# Altium schematic symbol library zener.SchLib: 1 symbol
Pins are listed as number, name and electrical type; pins without a type are passive.

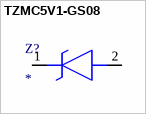
[diagram p0: symbol TZMC5V1-GS08]

## TZMC5V1-GS08
designator Z?
Zener Diode; Manufacturer_Name: Vishay; Manufacturer_Part_Number: TZMC5V1-GS08; Datasheet Link: https://componentsearchengine.com/Datasheets/2/TZMC5V1-GS08.pdf; Height: 1.6mm
footprint TZMC5V1GS08
pins: 1 K, 2 A